# Altium footprint library Sheye-IC.PcbLib: 58 footprints (part 3 of 4)
Each footprint in its own frame and in the unit in brackets; x right, y up, seen from the top. Pads: shape width x height; smd on the part's side, far side on the other; paste and mask are expansions set on the pad; w line width, h text height; cw(c..) or ccw(c..) is an arc to the next point about the centre after c.
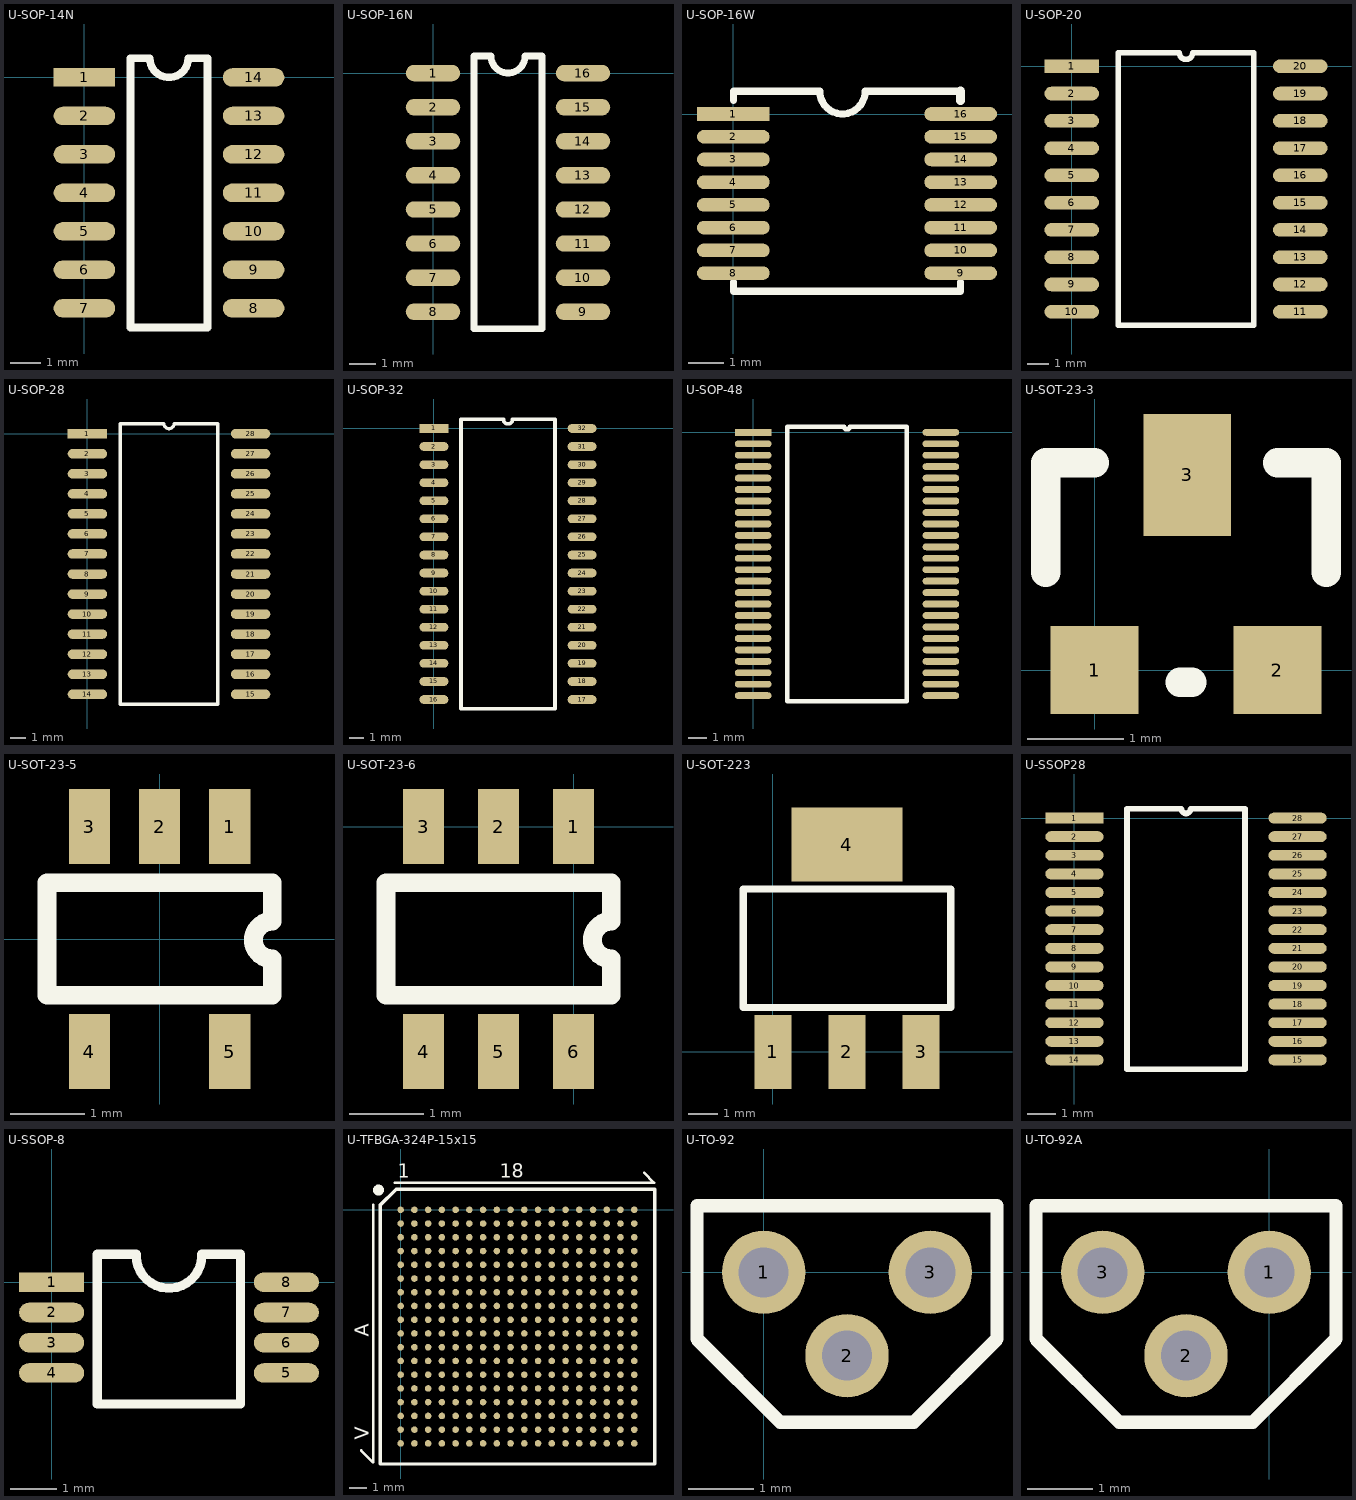
[diagram p2: the footprints below, top view; thin cyan lines are the x and y axes]

## U-SOP-14N [mil]
pads (14):
  rect 80x24 smd: 1(0,0)
  oval 80x24 smd: 2(0,-50) 3(0,-100) 4(0,-150) 5(0,-200) 6(0,-250) 7(0,-300) 8(220,-300) 9(220,-250) 10(220,-200) 11(220,-150) 12(220,-100) 13(220,-50) 14(220,0)
Top Overlay:
  lines w10: 60,-325 160,-325 160,25 135,25 cw(c110,25) 85,25 60,25 60,-325
3D body: height 59.06, standoff 3.94, extent 60,-325 160,25
3D body: height 10, standoff 0, extent -5,-9 65,10
3D body: height 10, standoff 0, extent -5,-59.5 65,-40.5
3D body: height 10, standoff 0, extent -5,-109.5 65,-90.5
3D body: height 10, standoff 0, extent -5,-159.5 65,-140.5
3D body: height 10, standoff 0, extent -5,-209.5 65,-190.5
3D body: height 10, standoff 0, extent -5,-258.5 65,-239.5
3D body: height 10, standoff 0, extent -5,-309.5 65,-290.5
3D body: height 10, standoff 0, extent 155,-309.5 225,-290.5
3D body: height 10, standoff 0, extent 155,-258.5 225,-239.5
3D body: height 10, standoff 0, extent 155,-209.5 225,-190.5
3D body: height 10, standoff 0, extent 155,-159.5 225,-140.5
3D body: height 10, standoff 0, extent 155,-109.5 225,-90.5
3D body: height 10, standoff 0, extent 155,-59.5 225,-40.5
3D body: height 10, standoff 0, extent 155,-9.5 225,9.5

## U-SOP-16N [mil]
pads (16):
  oval 80x24 smd: 1(0,0) 2(0,-50) 3(0,-100) 4(0,-150) 5(0,-200) 6(0,-250) 7(0,-300) 8(0,-350) 9(220,-350) 10(220,-300) 11(220,-250) 12(220,-200) 13(220,-150) 14(220,-100) 15(220,-50) 16(220,0)
Top Overlay:
  lines w10: 60,-375 60,25 85,25 ccw(c110,25) 135,25 160,25 160,-375 60,-375
3D body: height 59.06, standoff 3.94, extent 60,-375 160,25
3D body: height 10, standoff 0, extent -5,-9.5 65,9.5
3D body: height 10, standoff 0, extent -5,-59.5 65,-40.5
3D body: height 10, standoff 0, extent -5,-108.5 65,-89.5
3D body: height 10, standoff 0, extent -5,-159.5 65,-140.5
3D body: height 10, standoff 0, extent -5,-209.5 65,-190.5
3D body: height 10, standoff 0, extent -5,-259.5 65,-240.5
3D body: height 10, standoff 0, extent -5,-309.5 65,-290.5
3D body: height 10, standoff 0, extent -5,-359.5 65,-340.5
3D body: height 10, standoff 0, extent 155,-359.5 225,-340.5
3D body: height 10, standoff 0, extent 155,-309.5 225,-290.5
3D body: height 10, standoff 0, extent 155,-259.5 225,-240.5
3D body: height 10, standoff 0, extent 155,-209.5 225,-190.5
3D body: height 10, standoff 0, extent 155,-159.5 225,-140.5
3D body: height 10, standoff 0, extent 155,-109.5 225,-90.5
3D body: height 10, standoff 0, extent 155,-59.5 225,-40.5
3D body: height 10, standoff 0, extent 155,-9.5 225,9.5

## U-SOP-16W [mil]
pads (16):
  rect 80x15 smd: 1(0,0)
  oval 80x15 smd: 2(0,-25) 3(0,-50) 4(0,-75) 5(0,-100) 6(0,-125) 7(0,-150) 8(0,-175) 9(250,-175) 10(250,-150) 11(250,-125) 12(250,-100) 13(250,-75) 14(250,-50) 15(250,-25) 16(250,0)
Top Overlay:
  lines w7.87: 0,-185 0,-195 250,-195 250,-185 ; 0,15 0,25 95,25 ccw(c120,25) 145,25 250,25
  lines w10: 250,15 250,25
3D body: height 59.06, standoff 3.94, extent 25,-195 223,25
3D body: height 10, standoff 0, extent -26,-5 38,6
3D body: height 10, standoff 0, extent -26,-30 38,-19
3D body: height 10, standoff 0, extent -26,-55.5 38,-44.5
3D body: height 10, standoff 0, extent -26,-80.5 38,-69.5
3D body: height 10, standoff 0, extent -26,-104.5 38,-93.5
3D body: height 10, standoff 0, extent -26,-130.5 38,-119.5
3D body: height 10, standoff 0, extent -26,-155.5 38,-144.5
3D body: height 10, standoff 0, extent -26,-180.5 38,-169.5
3D body: height 10, standoff 0, extent 215,-5.5 279,5.5
3D body: height 10, standoff 0, extent 215,-30.5 279,-19.5
3D body: height 10, standoff 0, extent 215,-55.5 279,-44.5
3D body: height 10, standoff 0, extent 215,-80.5 279,-69.5
3D body: height 10, standoff 0, extent 215,-105.5 279,-94.5
3D body: height 10, standoff 0, extent 215,-130.5 279,-119.5
3D body: height 10, standoff 0, extent 215,-155 279,-144
3D body: height 10, standoff 0, extent 215,-180.5 279,-169.5

## U-SOP-20 [mil]
pads (20):
  rect 100x25 smd: 1(0,0)
  oval 100x25 smd: 2(0,-50) 3(0,-100) 4(0,-150) 5(0,-200) 6(0,-250) 7(0,-300) 8(0,-350) 9(0,-400) 10(0,-450) 11(419,-450) 12(419,-400) 13(419,-350) 14(419,-300) 15(419,-250) 16(419,-200) 17(419,-150) 18(419,-100) 19(419,-50) 20(419,0)
Top Overlay:
  lines w10: 85,-475 85,25 197,25 ccw(c209.5,25) 222,25 334,25 334,-475 85,-475
3D body: height 59.06, standoff 3.94, extent 86,-474 329,21

## U-SOP-28 [mm]
pads (28):
  rect 2.5x0.6 smd: 1(0,0)
  oval 2.5x0.6 smd: 2(0,-1.27) 3(0,-2.54) 4(0,-3.81) 5(0,-5.08) 6(0,-6.35) 7(0,-7.62) 8(0,-8.89) 9(0,-10.16) 10(0,-11.43) 11(0,-12.7) 12(0,-13.97) 13(0,-15.24) 14(0,-16.51) 15(10.34,-16.51) 16(10.34,-15.24) 17(10.34,-13.97) 18(10.34,-12.7) 19(10.34,-11.43) 20(10.34,-10.16) 21(10.34,-8.89) 22(10.34,-7.62) 23(10.34,-6.35) 24(10.34,-5.08) 25(10.34,-3.81) 26(10.34,-2.54) 27(10.34,-1.27) 28(10.34,0)
Top Overlay:
  lines w0.2: 2.085,-17.145 2.085,0.635 4.852,0.635 ccw(c5.17,0.635) 5.487,0.635 8.255,0.635 8.255,-17.145 2.085,-17.145
3D body: height 1.5, standoff 0.1, extent 2.184,-17.043 8.153,0.533

## U-SOP-32 [mil]
pads (32):
  rect 80x24 smd: 1(0,0)
  oval 80x24 smd: 2(0,-50) 3(0,-100) 4(0,-150) 5(0,-200) 6(0,-250) 7(0,-300) 8(0,-350) 9(0,-400) 10(0,-450) 11(0,-500) 12(0,-550) 13(0,-600) 14(0,-650) 15(0,-700) 16(0,-750) 17(410,-750) 18(410,-700) 19(410,-650) 20(410,-600) 21(410,-550) 22(410,-500) 23(410,-450) 24(410,-400) 25(410,-350) 26(410,-300) 27(410,-250) 28(410,-200) 29(410,-150) 30(410,-100) 31(410,-50) 32(410,0)
Top Overlay:
  lines w10: 75,-775 75,25 192.5,25 ccw(c205,25) 217.5,25 335,25 335,-775 75,-775
3D body: height 10, standoff 0, extent 330,-9 422,10
3D body: height 10, standoff 0, extent 330,-59.5 422,-40.5
3D body: height 10, standoff 0, extent 330,-109 422,-90
3D body: height 10, standoff 0, extent 330,-159 422,-140
3D body: height 10, standoff 0, extent 330,-209 422,-190
3D body: height 10, standoff 0, extent 330,-259 422,-240
3D body: height 10, standoff 0, extent 330,-309 422,-290
3D body: height 10, standoff 0, extent 330,-359 422,-340
3D body: height 10, standoff 0, extent 330,-409 422,-390
3D body: height 10, standoff 0, extent 330,-459 422,-440
3D body: height 10, standoff 0, extent 330,-509 422,-490
3D body: height 10, standoff 0, extent 330,-559 422,-540
3D body: height 10, standoff 0, extent 330,-609 422,-590
3D body: height 10, standoff 0, extent 330,-659 422,-640
3D body: height 10, standoff 0, extent 330,-709 422,-690
3D body: height 10, standoff 0, extent 330,-758.5 422,-739.5
3D body: height 10, standoff 0, extent -12,-759 80,-740
3D body: height 10, standoff 0, extent -12,-709 80,-690
3D body: height 10, standoff 0, extent -12,-659 80,-640
3D body: height 10, standoff 0, extent -12,-609 80,-590
3D body: height 10, standoff 0, extent -12,-559 80,-540
3D body: height 10, standoff 0, extent -11,-509 81,-490
3D body: height 10, standoff 0, extent -12,-459 80,-440
3D body: height 10, standoff 0, extent -12,-409 80,-390
3D body: height 10, standoff 0, extent -12,-359 80,-340
3D body: height 10, standoff 0, extent -12,-309 80,-290
3D body: height 10, standoff 0, extent -12,-259 80,-240
3D body: height 10, standoff 0, extent -12,-209 80,-190
3D body: height 10, standoff 0, extent -12,-159 80,-140
3D body: height 10, standoff 0, extent -12,-109 80,-90
3D body: height 10, standoff 0, extent -12,-9 80,10
3D body: height 10, standoff 0, extent -12,-59 80,-40
3D body: height 59.06, standoff 3.94, extent 75,-775 335,25

## U-SOP-48 [mil]
pads (48):
  rect 80x15 smd: 1(0,0)
  oval 80x15 smd: 2(0,-25) 3(0,-50) 4(0,-75) 5(0,-100) 6(0,-125) 7(0,-150) 8(0,-175) 9(0,-200) 10(0,-225) 11(0,-250) 12(0,-275) 13(0,-300) 14(0,-325) 15(0,-350) 16(0,-375) 17(0,-400) 18(0,-425) 19(0,-450) 20(0,-475) 21(0,-500) 22(0,-525) 23(0,-550) 24(0,-575) 25(410,-575) 26(410,-550) 27(410,-525) 28(410,-500) 29(410,-475) 30(410,-450) 31(410,-425) 32(410,-400) 33(410,-375) 34(410,-350) 35(410,-325) 36(410,-300) 37(410,-275) 38(410,-250) 39(410,-225) 40(410,-200) 41(410,-175) 42(410,-150) 43(410,-125) 44(410,-100) 45(410,-75) 46(410,-50) 47(410,-25) 48(410,0)
Top Overlay:
  lines w10: 75,-587.5 335,-587.5 335,12.5 211.25,12.5 cw(c205,12.5) 198.75,12.5 75,12.5 75,-587.5

## U-SOT-23-3 [mil]
pads (3):
  rect 36x36 smd: 1(0,0) 2(75,0)
  rect 36x50 smd: 3(38,80)
Top Overlay:
  lines w12: -20,40 -20,85 0,85 ; 35,-5 40,-5 ; 75,85 95,85 95,40
3D body: height 50, standoff 3, extent -20.5,12.5 94.5,67.5
3D body: height 10, standoff 0, extent 20.5,65 54.5,90
3D body: height 10, standoff 0, extent -17.5,-10 16.5,15
3D body: height 10, standoff 0, extent 57.5,-10 91.5,15

## U-SOT-23-5 [mil]
pads (5):
  rect 22x40 smd: 1(37.4,60) 2(0,60) 3(-37.4,60) 4(-37.4,-60) 5(37.4,-60)
Top Overlay:
  lines w10: 60,-13 60,-30 -60,-30 -60,30 60,30 60,9.44 ccw(c60,-0.56) 60,-10.56
3D body: height 10, standoff 0, extent 28,-68 47,-26
3D body: height 10, standoff 0, extent -47,-68 -28,-26
3D body: height 10, standoff 0, extent 28,27 47,69
3D body: height 10, standoff 0, extent -10,27 9,69
3D body: height 59.06, standoff 3.94, extent -60,-30 60,30
3D body: height 10, standoff 0, extent -47,27 -28,69

## U-SOT-23-6 [mil]
pads (6):
  rect 22x40 smd: 1(0,0) 2(-40,0) 3(-80,0) 4(-80,-120) 5(-40,-120) 6(0,-120)
Top Overlay:
  lines w10: 20,-73 20,-90 -100,-90 -100,-30 20,-30 20,-50.56 ccw(c20,-60.56) 20,-70.56
3D body: height 10, standoff 0, extent -49.5,-127 -30.5,-85
3D body: height 10, standoff 0, extent -9.5,-127 9.5,-85
3D body: height 10, standoff 0, extent -89.5,-127 -70.5,-85
3D body: height 10, standoff 0, extent -9.5,-32 9.5,10
3D body: height 10, standoff 0, extent -49.5,-32 -30.5,10
3D body: height 59.06, standoff 3.94, extent -101,-89 19,-29
3D body: height 10, standoff 0, extent -89.5,-32 -70.5,10

## U-SOT-223 [mil]
pads (4):
  rect 50x100 smd: 1(0,0) 2(100,0) 3(200,0)
  rect 150x100 smd: 4(100,280)
Top Overlay:
  lines w10: -40,60 -40,220 240,220 240,60 -40,60
3D body: height 10, standoff 0, extent 44,205 154,295
3D body: height 10, standoff 0, extent 182,-15 216,75
3D body: height 10, standoff 0, extent 82,-15 116,75
3D body: height 10, standoff 0, extent -18,-15 16,75
3D body: height 50, standoff 3, extent -36,70 234,210

## U-SSOP28 [mil]
pads (28):
  rect 80x15 smd: 1(0,0)
  oval 80x15 smd: 2(0,-25.59) 3(0,-51.18) 4(0,-76.77) 5(0,-102.36) 6(0,-127.95) 7(0,-153.54) 8(0,-179.13) 9(0,-204.72) 10(0,-230.32) 11(0,-255.91) 12(0,-281.5) 13(0,-307.09) 14(0,-332.68) 15(307.09,-332.68) 16(307.09,-307.09) 17(307.09,-281.5) 18(307.09,-255.91) 19(307.09,-230.32) 20(307.09,-204.72) 21(307.09,-179.13) 22(307.09,-153.54) 23(307.09,-127.95) 24(307.09,-102.36) 25(307.09,-76.77) 26(307.09,-51.18) 27(307.09,-25.59) 28(307.09,0)
Top Overlay:
  lines w7.87: 72.24,-345.47 234.84,-345.47 234.84,12.8 159.94,12.8 cw(c153.54,12.8) 147.15,12.8 72.24,12.8 72.24,-345.47
3D body: height 59.06, standoff 3.94, extent 72.24,-345.47 234.84,12.8
3D body: height 10, standoff 0, extent -8.5,-6.5 76.5,6.5
3D body: height 10, standoff 0, extent -8.5,-31.5 76.5,-18.5
3D body: height 10, standoff 0, extent -8.5,-57.5 76.5,-44.5
3D body: height 10, standoff 0, extent -8.5,-83.5 76.5,-70.5
3D body: height 10, standoff 0, extent -8.5,-108.5 76.5,-95.5
3D body: height 10, standoff 0, extent -8.5,-133.5 76.5,-120.5
3D body: height 10, standoff 0, extent -8.5,-159.5 76.5,-146.5
3D body: height 10, standoff 0, extent -8.5,-185.5 76.5,-172.5
3D body: height 10, standoff 0, extent -8.5,-210.5 76.5,-197.5
3D body: height 10, standoff 0, extent -8.5,-236.5 76.5,-223.5
3D body: height 10, standoff 0, extent -8.5,-262.5 76.5,-249.5
3D body: height 10, standoff 0, extent -8.5,-287.5 76.5,-274.5
3D body: height 10, standoff 0, extent -8.5,-313.5 76.5,-300.5
3D body: height 10, standoff 0, extent -8.5,-339.5 76.5,-326.5
3D body: height 10, standoff 0, extent 229.5,-339.5 314.5,-326.5
3D body: height 10, standoff 0, extent 229.5,-313.5 314.5,-300.5
3D body: height 10, standoff 0, extent 229.5,-287.5 314.5,-274.5
3D body: height 10, standoff 0, extent 229.5,-261.5 314.5,-248.5
3D body: height 10, standoff 0, extent 229.5,-236.5 314.5,-223.5
3D body: height 10, standoff 0, extent 229.5,-210.5 314.5,-197.5
3D body: height 10, standoff 0, extent 229.5,-185.5 314.5,-172.5
3D body: height 10, standoff 0, extent 229.5,-159.5 314.5,-146.5
3D body: height 10, standoff 0, extent 229.5,-133.5 314.5,-120.5
3D body: height 10, standoff 0, extent 229.5,-108.5 314.5,-95.5
3D body: height 10, standoff 0, extent 229.5,-82.5 314.5,-69.5
3D body: height 10, standoff 0, extent 229.5,-57.5 314.5,-44.5
3D body: height 10, standoff 0, extent 229.5,-31.5 314.5,-18.5
3D body: height 10, standoff 0, extent 229.5,-6.5 314.5,6.5

## U-SSOP-8 [mm]
pads (8):
  rect 1.4x0.42 smd: 1(0,0)
  oval 1.4x0.42 smd: 2(0,-0.65) 3(0,-1.3) 4(0,-1.95) 5(5.05,-1.95) 6(5.05,-1.3) 7(5.05,-0.65) 8(5.05,0)
Top Overlay:
  lines w0.2: 1.819,0.579 ccw(c2.525,0.579) 3.231,0.579 ; 1.819,0.6 0.985,0.6 0.985,-2.616 4.064,-2.616 4.064,0.6 3.231,0.6
3D body: height 0.84, standoff -0.12, extent 0.064,-2.464 4.966,0.533

## U-TFBGA-324P-15x15 [mil]
pads (324):
  round 15 smd: A1(0,0) A2(31.5,0) A3(62.99,0) A4(94.49,0) A5(125.98,0) A6(157.48,0) A7(188.98,0) A8(220.47,0) A9(251.97,0) A10(283.46,0) A11(314.96,0) A12(346.46,0) A13(377.95,0) A14(409.45,0) A15(440.95,0) A16(472.44,0) A17(503.94,0) A18(535.43,0) B1(0,-31.5) B2(31.5,-31.5) B3(62.99,-31.5) B4(94.49,-31.5) B5(125.98,-31.5) B6(157.48,-31.5) B7(188.98,-31.5) B8(220.47,-31.5) B9(251.97,-31.5) B10(283.46,-31.5) B11(314.96,-31.5) B12(346.46,-31.5) B13(377.95,-31.5) B14(409.45,-31.5) B15(440.95,-31.5) B16(472.44,-31.5) B17(503.94,-31.5) B18(535.43,-31.5) C1(0,-62.99) C2(31.5,-62.99) C3(62.99,-62.99) C4(94.49,-62.99) C5(125.98,-62.99) C6(157.48,-62.99) C7(188.98,-62.99) C8(220.47,-62.99) C9(251.97,-62.99) C10(283.46,-62.99) C11(314.96,-62.99) C12(346.46,-62.99) C13(377.95,-62.99) C14(409.45,-62.99) C15(440.95,-62.99) C16(472.44,-62.99) C17(503.94,-62.99) C18(535.43,-62.99) D1(0,-94.49) D2(31.5,-94.49) D3(62.99,-94.49) D4(94.49,-94.49) D5(125.98,-94.49) D6(157.48,-94.49) D7(188.98,-94.49) D8(220.47,-94.49) D9(251.97,-94.49) D10(283.46,-94.49) D11(314.96,-94.49) D12(346.46,-94.49) D13(377.95,-94.49) D14(409.45,-94.49) D15(440.95,-94.49) D16(472.44,-94.49) D17(503.94,-94.49) D18(535.43,-94.49) E1(0,-125.98) E2(31.5,-125.98) E3(62.99,-125.98) E4(94.49,-125.98) E5(125.98,-125.98) E6(157.48,-125.98) E7(188.98,-125.98) E8(220.47,-125.98) E9(251.97,-125.98) E10(283.46,-125.98) E11(314.96,-125.98) E12(346.46,-125.98) E13(377.95,-125.98) E14(409.45,-125.98) E15(440.95,-125.98) E16(472.44,-125.98) E17(503.94,-125.98) E18(535.43,-125.98) F1(0,-157.48) F2(31.5,-157.48) F3(62.99,-157.48) F4(94.49,-157.48) F5(125.98,-157.48) F6(157.48,-157.48) F7(188.98,-157.48) F8(220.47,-157.48) F9(251.97,-157.48) F10(283.46,-157.48) F11(314.96,-157.48) F12(346.46,-157.48) F13(377.95,-157.48) F14(409.45,-157.48) F15(440.95,-157.48) F16(472.44,-157.48) F17(503.94,-157.48) F18(535.43,-157.48) G1(0,-188.98) G2(31.5,-188.98) G3(62.99,-188.98) G4(94.49,-188.98) G5(125.98,-188.98) G6(157.48,-188.98) G7(188.98,-188.98) G8(220.47,-188.98) G9(251.97,-188.98) G10(283.46,-188.98) G11(314.96,-188.98) G12(346.46,-188.98) G13(377.95,-188.98) G14(409.45,-188.98) G15(440.95,-188.98) G16(472.44,-188.98) G17(503.94,-188.98) G18(535.43,-188.98) H1(0,-220.47) H2(31.5,-220.47) H3(62.99,-220.47) H4(94.49,-220.47) H5(125.98,-220.47) H6(157.48,-220.47) H7(188.98,-220.47) H8(220.47,-220.47) H9(251.97,-220.47) H10(283.46,-220.47) H11(314.96,-220.47) H12(346.46,-220.47) H13(377.95,-220.47) H14(409.45,-220.47) H15(440.95,-220.47) H16(472.44,-220.47) H17(503.94,-220.47) H18(535.43,-220.47) J1(0,-251.97) J2(31.5,-251.97) J3(62.99,-251.97) J4(94.49,-251.97) J5(125.98,-251.97) J6(157.48,-251.97) J7(188.98,-251.97) J8(220.47,-251.97) J9(251.97,-251.97) J10(283.46,-251.97) J11(314.96,-251.97) J12(346.46,-251.97) J13(377.95,-251.97) J14(409.45,-251.97) J15(440.95,-251.97) J16(472.44,-251.97) J17(503.94,-251.97) J18(535.43,-251.97) K1(0,-283.46) K2(31.5,-283.46) K3(62.99,-283.46) K4(94.49,-283.46) K5(125.98,-283.46) K6(157.48,-283.46) K7(188.98,-283.46) K8(220.47,-283.46) K9(251.97,-283.46) K10(283.46,-283.46) K11(314.96,-283.46) K12(346.46,-283.46) K13(377.95,-283.46) K14(409.45,-283.46) K15(440.95,-283.46) K16(472.44,-283.46) K17(503.94,-283.46) K18(535.43,-283.46) L1(0,-314.96) L2(31.5,-314.96) L3(62.99,-314.96) L4(94.49,-314.96) L5(125.98,-314.96) L6(157.48,-314.96) L7(188.98,-314.96) L8(220.47,-314.96) L9(251.97,-314.96) L10(283.46,-314.96) L11(314.96,-314.96) L12(346.46,-314.96) L13(377.95,-314.96) L14(409.45,-314.96) L15(440.95,-314.96) L16(472.44,-314.96) L17(503.94,-314.96) L18(535.43,-314.96) M1(0,-346.46) M2(31.5,-346.46) M3(62.99,-346.46) M4(94.49,-346.46) M5(125.98,-346.46) M6(157.48,-346.46) M7(188.98,-346.46) M8(220.47,-346.46) M9(251.97,-346.46) M10(283.46,-346.46) M11(314.96,-346.46) M12(346.46,-346.46) M13(377.95,-346.46) M14(409.45,-346.46) M15(440.95,-346.46) M16(472.44,-346.46) M17(503.94,-346.46) M18(535.43,-346.46) N1(0,-377.95) N2(31.5,-377.95) N3(62.99,-377.95) N4(94.49,-377.95) N5(125.98,-377.95) N6(157.48,-377.95) N7(188.98,-377.95) N8(220.47,-377.95) N9(251.97,-377.95) N10(283.46,-377.95) N11(314.96,-377.95) N12(346.46,-377.95) N13(377.95,-377.95) N14(409.45,-377.95) N15(440.95,-377.95) N16(472.44,-377.95) N17(503.94,-377.95) N18(535.43,-377.95) P1(0,-409.45) P2(31.5,-409.45) P3(62.99,-409.45) P4(94.49,-409.45) P5(125.98,-409.45) P6(157.48,-409.45) P7(188.98,-409.45) P8(220.47,-409.45) P9(251.97,-409.45) P10(283.46,-409.45) P11(314.96,-409.45) P12(346.46,-409.45) P13(377.95,-409.45) P14(409.45,-409.45) P15(440.95,-409.45) P16(472.44,-409.45) P17(503.94,-409.45) P18(535.43,-409.45) R1(0,-440.95) R2(31.5,-440.95) R3(62.99,-440.95) R4(94.49,-440.95) R5(125.98,-440.95) R6(157.48,-440.95) R7(188.98,-440.95) R8(220.47,-440.95) R9(251.97,-440.95) R10(283.46,-440.95) R11(314.96,-440.95) R12(346.46,-440.95) R13(377.95,-440.95) R14(409.45,-440.95) R15(440.95,-440.95) R16(472.44,-440.95) R17(503.94,-440.95) R18(535.43,-440.95) T1(0,-472.44) T2(31.5,-472.44) T3(62.99,-472.44) T4(94.49,-472.44) T5(125.98,-472.44) T6(157.48,-472.44) T7(188.98,-472.44) T8(220.47,-472.44) T9(251.97,-472.44) T10(283.46,-472.44) T11(314.96,-472.44) T12(346.46,-472.44) T13(377.95,-472.44) T14(409.45,-472.44) T15(440.95,-472.44) T16(472.44,-472.44) T17(503.94,-472.44) T18(535.43,-472.44) U1(0,-503.94) U2(31.5,-503.94) U3(62.99,-503.94) U4(94.49,-503.94) U5(125.98,-503.94) U6(157.48,-503.94) U7(188.98,-503.94) U8(220.47,-503.94) U9(251.97,-503.94) U10(283.46,-503.94) U11(314.96,-503.94) U12(346.46,-503.94) U13(377.95,-503.94) U14(409.45,-503.94) U15(440.95,-503.94) U16(472.44,-503.94) U17(503.94,-503.94) U18(535.43,-503.94) V1(0,-535.43) V2(31.5,-535.43) V3(62.99,-535.43) V4(94.49,-535.43) V5(125.98,-535.43) V6(157.48,-535.43) V7(188.98,-535.43) V8(220.47,-535.43) V9(251.97,-535.43) V10(283.46,-535.43) V11(314.96,-535.43) V12(346.46,-535.43) V13(377.95,-535.43) V14(409.45,-535.43) V15(440.95,-535.43) V16(472.44,-535.43) V17(503.94,-535.43) V18(535.43,-535.43)
Top Overlay:
  circle w15: c-50.76,45.28 r5
  lines w6: -90.5,-551.5 -63,-579 -63,11 ; -13,62 581,62 558,85
  lines w8: -47.24,-582.68 -47.24,10.32 -10.32,47.24 582.68,47.24 582.68,-582.68 -47.24,-582.68
  text "1               18" at -7,73 h32
  text "V               A" at -73,-527 h32
3D body: height 39.37, standoff 0, extent -39.28,-572.72 572.72,37.28

## U-TO-92 [mil]
pads (3):
  round 50 hole 30: 1(0,0) 2(50,-50) 3(100,0)
Top Overlay:
  lines w8: -40,-40 10,-90 90,-90 140,-40 140,40 -40,40 -40,-40
3D body: height 204.75, standoff -22.57, extent 40.04,-80 60,-1.23
3D body: height 210, standoff -20, extent -10,-9.92 9.96,10
3D body: height 210, standoff -20, extent 90,-9.92 109.96,10
3D body: height 300, standoff 200, extent -40,-70 141,30

## U-TO-92A [mil]
pads (3):
  round 50 hole 30: 1(0,0) 2(-50,-50) 3(-100,0)
Top Overlay:
  lines w8: -140,-40 -140,40 40,40 40,-40 -10,-90 -90,-90 -140,-40
3D body: height 204.75, standoff -22.57, extent -59.96,-80 -40,-1.23
3D body: height 210, standoff -20, extent -110,-9.92 -90.04,10
3D body: height 210, standoff -20, extent -10,-9.92 9.96,10
3D body: height 300, standoff 200, extent -140,-70 41,30